# EAGLE library part HX1188NL (library HyTechDevices)
Pulse Electronics HX1188NL Transformer
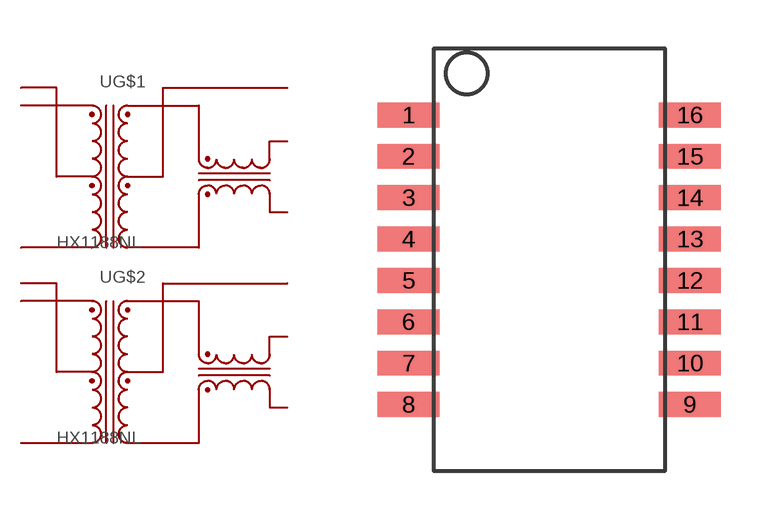
[diagram p57: symbol with the pads of HX1188NL; footprint HX1188NL]

Designator prefix -; gates G$1=TRANSFORMER G$2=TRANSFORMER

## HX1188NLHX1188NL  [HX1188NL]
1  G$1:MX+  pas
2  G$1:MCT  pas
3  G$1:MX-  pas
6  G$2:MX+  pas
7  G$2:MCT  pas
8  G$2:MX-  pas
9  G$2:TD-  pas
10  G$2:TCT  pas
11  G$2:TD+  pas
14  G$1:TD-  pas
15  G$1:TCT  pas
16  G$1:TD+  pas

## Footprint HX1188NL (pad centres in mm)
smd 1.905 x 0.762: 1 -4.318,4.445; 2 -4.318,3.175; 3 -4.318,1.905; 4 -4.318,0.635; 5 -4.318,-0.635; 6 -4.318,-1.905; 7 -4.318,-3.175; 8 -4.318,-4.445; 9 4.318,-4.445; 10 4.318,-3.175; 11 4.318,-1.905; 12 4.318,-0.635; 13 4.318,0.635; 14 4.318,1.905; 15 4.318,3.175; 16 4.318,4.445